# Altium schematic symbol library STLink_V2_Design_1.SCHLIB: 15 symbols
Pins are listed as number, name and electrical type; pins without a type are passive.

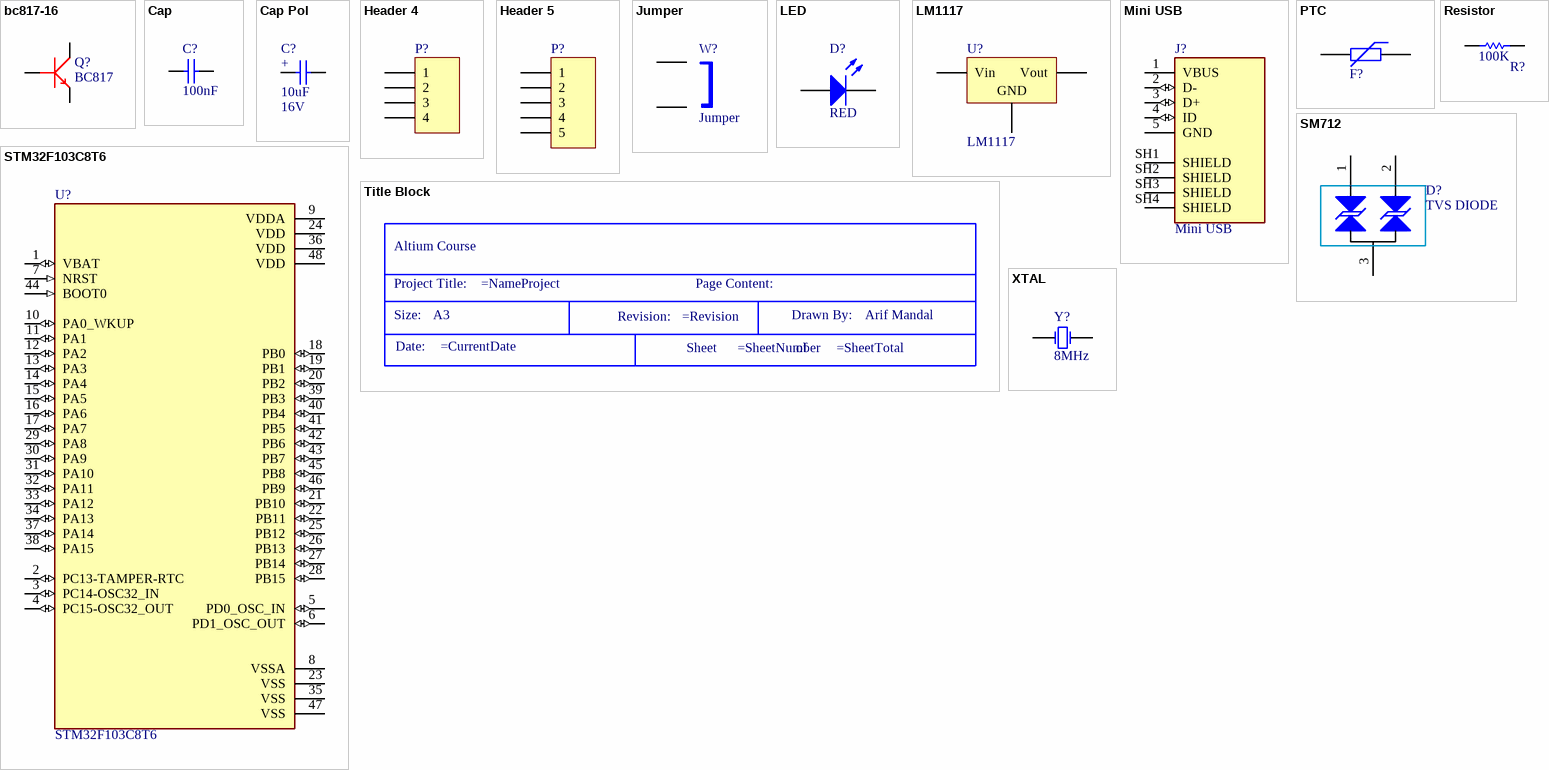
[diagram p0: symbols bc817-16 to XTAL]

## bc817-16
designator Q?, comment BC817
footprint SOT23_3 (SOT23, 3-Leads, Body 2,90x2,40mm, Pitch 0,95mm, IPC Medium Density)
pins: 1 B, 2 E, 3 C

## Cap
designator C?, comment 100nF
Capacitor; Designer: Parsa Malekpour; Value: 100nF
footprint CAP10
footprint C1206
footprint C805
pins: 1, 2

## Cap Pol
designator C?, comment Volte: 16V  (hidden comment: 10uF)
Polar capacitor; ASiD Part Number: C-AS; Value: 10uF
footprint MY_E2.5-5mm
footprint MY_E2.5-6mm
footprint MY_E2.5-7mm
footprint MY_E3.5-8mm
footprint MY_E3.5-10mm
footprint MY_E5-13mm
footprint MY_E7.5-16mm
footprint MY_E7.5-18mm
footprint MY_E10-35mm
footprint MY_CLV_1012
footprint MY_CLV_0405
footprint MY_CLV_0605
footprint MY_CLV_0810
footprint MY_E5-10.5mm
footprint MY_CLV_0505
footprint MY_SMC_A
footprint MY_SMC_B
footprint MY_SMC_C
footprint MY_SMC_D
footprint MY_SMC_E
pins: +, -

## Header 4
designator P?  (value not drawn)
Header, 4-Pin; ASiD Part Number: Header 4-AS
footprint My_1X04
signal-integrity model Connector
footprint MY_MSTBA4
footprint MY_FPC4_1mm
footprint MY_6410-04
footprint MY_7395-04
footprint MY_FE04
footprint MY_FE04W
footprint MY_MA04-1W
pins: 1, 2, 3, 4

## Header 5
designator P?  (value not drawn)
Header, 5-Pin; ASiD Part Number: Header 5-AS
footprint My_1X05
signal-integrity model Connector
footprint MY_MSTBA5
footprint MY_1x05_SMD
footprint MY_6410-05
footprint MY_7395-05
footprint MY_FE05
footprint MY_FE05W
footprint MY_MA05-1W
pins: 1, 2, 3, 4, 5

## Jumper
designator W?
Jumper Wire; ASiD Part Number: Jumper-AS
footprint My_1X02
footprint MY_JUMPER_5mm
footprint MY_JUMPER_7mm
footprint MY_JUMPER_10mm
footprint MY_JUMPER_12mm
footprint MY_JUMPER_15mm
footprint MY_JUMPER_20mm
footprint MY_JUMPER_25mm
footprint MY_JUMPER_30mm
footprint MY_0805
pins: 1, 2

## LED
designator D?, comment RED
Typical INFRARED GaAs LED; ASiD Part Number: LED-AS
footprint My_LED3MM
footprint MY_LED5MM
footprint MY_SQ_LED
footprint MY_LED_0805
footprint MY_LED_1206
pins: A, K

## LM1117
designator U?
Low Drop Voltage Reg; ASiD Part Number: LM1117-AS
footprint MY_SOT223
pins: 1 GND, 2 Vout, 3 Vin

## Mini USB
designator J?
MINI USB 2.0- B Type Receptacle conn. Right Angle Surface Mount Type; MF: Amphenol ICC; MP: 10033526-N3212LF; SnapEDA_Link: https://www.snapeda.com/parts/10033526-N3212LF/Amphenol+FCI/view-part/?ref=snap; Package: None; Value: *; Check_prices: https://www.snapeda.com/parts/10033526-N3212LF/Amphenol+FCI/view-part/?ref=eda
footprint MiniUSB
pins: 1 VBUS (power), 2 D- (io), 3 D+ (io), 4 ID (io), 5 GND (power), SH1 SHIELD, SH2 SHIELD, SH3 SHIELD, SH4 SHIELD

## PTC
designator F?
PTC; Published: 24-Mar-1999; PackageVersion: Mar-2003; PackageReference: 6-0805
footprint PTC-0805
pins: 1, 2

## Resistor
designator R?, comment 100K
Resistor; Designer: Parsa Malekpour; Value: 100K
footprint R805
footprint R1206
footprint R0603
footprint R1210
footprint R2010
footprint RES-1/4W
footprint RES-1W
footprint RES-2W
footprint RES-5w
pins: 1, 2

## SM712
designator D?, comment TVS DIODE
footprint SOT-23
pins: 1 K, 2 K, 3 A

## STM32F103C8T6
designator U?
ARM® Cortex®-M3 STM32F1 Microcontroller IC 32-Bit 72MHz 64KB (64K x 8) FLASH 48-LQFP (7x7); MF: STMicroelectronics; SnapEDA_Link: https://www.snapeda.com/parts/STM32F103C8T6/STMicroelectronics/view-part/?ref=snap; Package: LQFP-48 STMicroelectronics; Value: *; MP: STM32F103C8T6; Check_prices: https://www.snapeda.com/parts/STM32F103C8T6/STMicroelectronics/view-part/?ref=eda
footprint QFP50P900X900X160-48N
pins: 1 VBAT (io), 2 PC13-TAMPER-RTC (io), 3 PC14-OSC32_IN (io), 4 PC15-OSC32_OUT (io), 5 PD0_OSC_IN (io), 6 PD1_OSC_OUT (io), 7 NRST (in), 8 VSSA (power), 9 VDDA (power), 10 PA0_WKUP (io), 11 PA1 (io), 12 PA2 (io), 13 PA3 (io), 14 PA4 (io), 15 PA5 (io), 16 PA6 (io), 17 PA7 (io), 18 PB0 (io), 19 PB1 (io), 20 PB2 (io), 21 PB10 (io), 22 PB11 (io), 23 VSS (power), 24 VDD (power), 25 PB12 (io), 26 PB13 (io), 27 PB14 (io), 28 PB15 (io), 29 PA8 (io), 30 PA9 (io), 31 PA10 (io), 32 PA11 (io), 33 PA12 (io), 34 PA13 (io), 35 VSS (power), 36 VDD (power), 37 PA14 (io), 38 PA15 (io), 39 PB3 (io), 40 PB4 (io), 41 PB5 (io), 42 PB6 (io), 43 PB7 (io), 44 BOOT0 (in), 45 PB8 (io), 46 PB9 (io), 47 VSS (power), 48 VDD (power)

## Title Block
designator *?  Size: A3  Drawn By: Arif Mandal  (hidden comment: Title Block)  (graphical)
text: Altium Course; Project Title:; Page Content:; Size:; Drawn By:; Revision:; Date:; Sheet; of

## XTAL
designator Y?, comment 8MHz
Crystal Oscillator; Designer: Parsa Malekpour; Email: Malekpour.parsa@Gmail.com; Value: 8MHz
footprint XTAL18
footprint R38 (RTC Crystal PCB)
footprint XTAL-SMD
footprint XTAL-SHORT
footprint XTAL-LONG
pins: 1 OSC1, 2 OSC2